# EAGLE library part UDB6B1RL (library work)
USB TVS Protection Diode / ESD DigiKey: 497-3281-1-ND
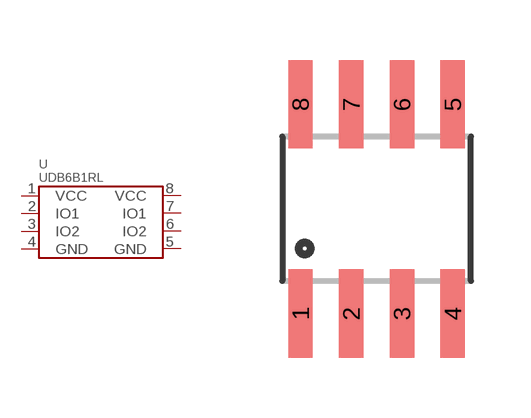
[diagram p62: symbol with the pads of SOIC-8; footprint SOIC-8]

Designator prefix U

## UDB6B1RL  [SOIC-8]
1  VCC
2  IO1
3  IO2
4  GND
5  GND
6  IO2
7  IO1
8  VCC

## Footprint SOIC-8 (pad centres in mm)
smd 0.61 x 2.21: 1 -1.905,-2.616; 2 -0.635,-2.616; 3 0.635,-2.616; 4 1.905,-2.616; 5 1.905,2.616; 6 0.635,2.616; 7 -0.635,2.616; 8 -1.905,2.616